# Altium footprint library SRU1048.PcbLib: 1 footprints
Each footprint in its own frame and in the unit in brackets; x right, y up, seen from the top. Pads: shape width x height; smd on the part's side, far side on the other; paste and mask are expansions set on the pad; w line width, h text height; cw(c..) or ccw(c..) is an arc to the next point about the centre after c.
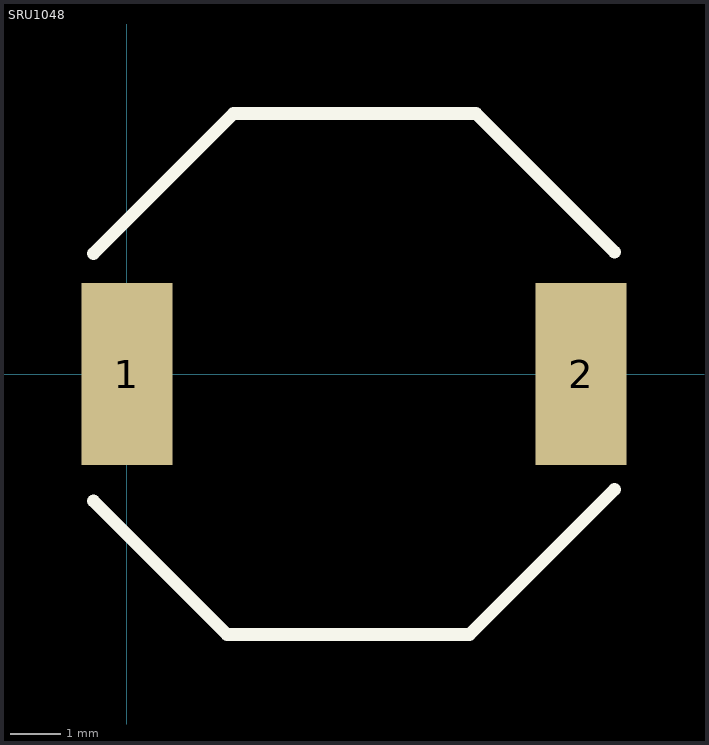
[diagram p0: the footprint, top view; thin cyan lines are the x and y axes]

## SRU1048 [mil]
pads (2):
  rect 71x142 smd: 1(0,0) 2(354,0)
Top Overlay:
  lines w10: -26,-99 78,-203 267,-203 380,-90 ; -26,94 83,203 272,203 380,95
3D body: height 201, standoff 0, extent -25,-200 380,200